# Altium footprint library BM15B-GHS-TBT(LF)(SN).PcbLib: 1 footprints
Each footprint in its own frame and in the unit in brackets; x right, y up, seen from the top. Pads: shape width x height; smd on the part's side, far side on the other; paste and mask are expansions set on the pad; w line width, h text height; cw(c..) or ccw(c..) is an arc to the next point about the centre after c.
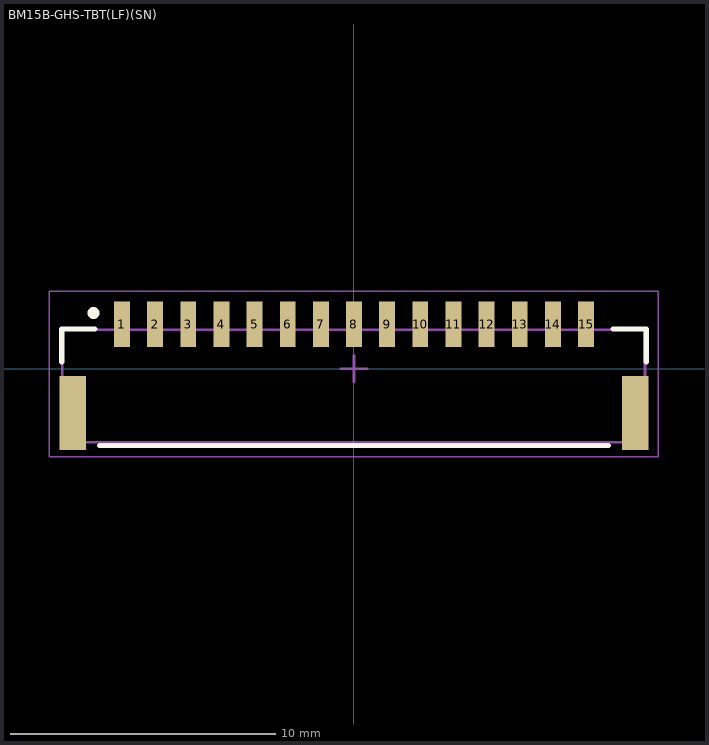
[diagram p0: the footprint, top view; thin cyan lines are the x and y axes]

## BM15B-GHS-TBT(LF)(SN) [mm]
pads (17):
  rect 0.6x1.7 smd: 1(-8.75,1.675) 2(-7.5,1.675) 3(-6.25,1.675) 4(-5,1.675) 5(-3.75,1.675) 6(-2.5,1.675) 7(-1.25,1.675) 8(0,1.675) 9(1.25,1.675) 10(2.5,1.675) 11(3.75,1.675) 12(5,1.675) 13(6.25,1.675) 14(7.5,1.675) 15(8.75,1.675)
  rect 1x2.8 smd: ""(-10.6,-1.675) ""(10.6,-1.675)
Top Overlay:
  circle w0.254: c-9.825,2.1 r0.1
  lines w0.2: -11.025,0.25 -11.025,1.5 -9.775,1.5 ; -9.6,-2.9 9.6,-2.9 ; 9.775,1.5 11.025,1.5 11.025,0.25
Mechanical 1:
  lines w0.1: -11,-2.775 -11,1.475 10.975,1.475 10.975,-2.775 -11,-2.775
  text ".Designator" at -3.374,-1.308 h0.65
Mechanical 2:
  lines w0.05: -11.5,-3.325 -11.5,2.925 11.475,2.925 11.475,-3.325 -11.5,-3.325
  lines w0.1: -0.5,0 0.5,0 ; 0,-0.5 0,0.5
3D body "BM15B-GHS-TBT.STEP": height 4.18, standoff -0.03, extent -11.025,-2.775 10.975,2.175